# EAGLE library part SPBT2632C1A (library LAB304)
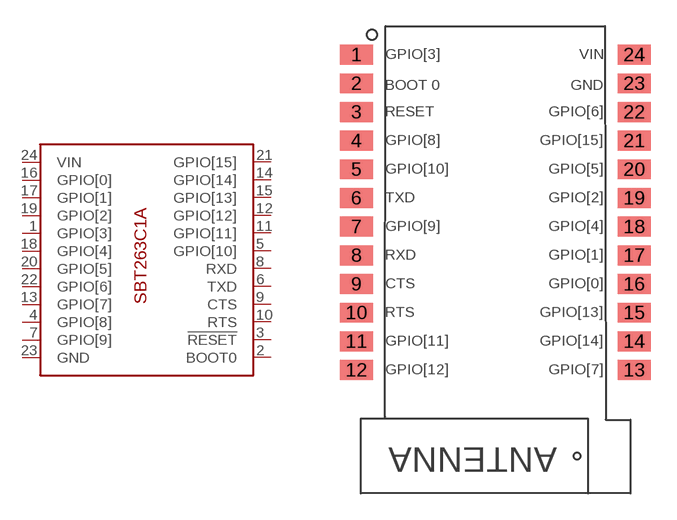
[diagram p2: symbol with the pads of SPBT2632C1A; footprint SPBT2632C1A]

Designator prefix -

## SPBT2632C1A  [SPBT2632C1A]
1  GPIO[3]
2  BOOT0
3  !RESET
4  GPIO[8]
5  GPIO[10]
6  TXD
7  GPIO[9]
8  RXD
9  CTS
10  RTS
11  GPIO[11]
12  GPIO[12]
13  GPIO[7]
14  GPIO[14]
15  GPIO[13]
16  GPIO[0]
17  GPIO[1]
18  GPIO[4]
19  GPIO[2]
20  GPIO[5]
21  GPIO[15]
22  GPIO[6]
23  GND
24  VIN

## Footprint SPBT2632C1A (pad centres in mm)
smd 1.905 x 1.143: 1 -8.001,11.811; 2 -8.001,10.16; 3 -8.001,8.509; 4 -8.001,6.858; 5 -8.001,5.207; 6 -8.001,3.556; 7 -8.001,1.905; 8 -8.001,0.254; 9 -8.001,-1.397; 10 -8.001,-3.048; 11 -8.001,-4.699; 12 -8.001,-6.35; 13 8.001,-6.35; 14 8.001,-4.699; 15 8.001,-3.048; 16 8.001,-1.397; 17 8.001,0.254; 18 8.001,1.905; 19 8.001,3.556; 20 8.001,5.207; 21 8.001,6.858; 22 8.001,8.509; 23 8.001,10.16; 24 8.001,11.811